# Altium integrated library Philips Discrete BJT - RF Transistor.IntLib: 91 symbols (part 1 of 2)
Pins are listed as number, name and electrical type; pins without a type are passive.

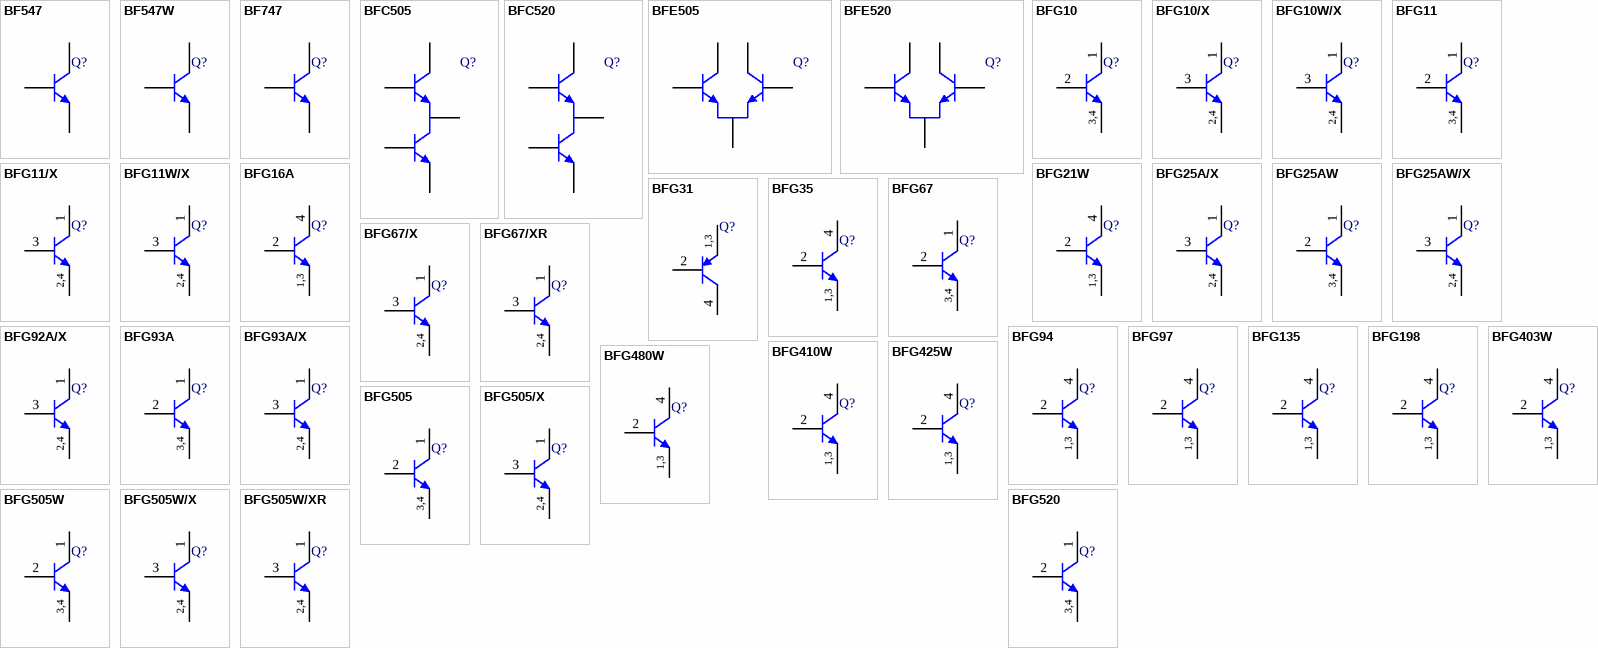
[diagram p0: symbols BF547 to BFG520]

## BF547
designator Q?
NPN 1 GHz Wideband Transistor; ComponentAvailability: Obsolete; Published: 17-Sep-2003; DatasheetVersion: Sep-1995; PackageVersion: May-1999; PackageReference: SOT23; Publisher: Altium Limited; PackageDescription: SOT-23; 3 Leads; Body 3.0 x 2.5 mm, inc. leads (LxW max); ComponentLink1Description: Manufacturer Link; ComponentLink1URL: http://www.semiconductors.philips.com/; ComponentLink2Description: Datasheet; ComponentLink2URL: http://www.semiconductors.philips.com/acrobat/datasheets/BF547_3.pdf; ComponentLink3Description: Discontinuation Notice; ComponentLink3URL: http://www.semiconductors.philips.com/pip/old/BF547.html
footprint SOT23 (SOT-23; 3 Leads; Body 3.0 x 2.5 mm, inc. leads (LxW max))
simulation model BF547 (SUBCKT)
signal-integrity model BF547
pins: 1 B, 2 E, 3 C

## BF547W
designator Q?
NPN 1 GHz Wideband Transistor; ComponentAvailability: Obsolete; Published: 17-Sep-2003; DatasheetVersion: Jun-1994; PackageVersion: Apr-1999; PackageReference: SOT323; Publisher: Altium Limited; PackageDescription: SOT-323/SC-70; 3 Leads; Body 2.2 x 2.2 mm, inc. leads (LxW max); ComponentLink1Description: Manufacturer Link; ComponentLink1URL: http://www.semiconductors.philips.com/; ComponentLink2Description: Datasheet; ComponentLink2URL: http://www.semiconductors.philips.com/acrobat/datasheets/BF547W_2.pdf; ComponentLink3Description: Discontinuation Notice; ComponentLink3URL: http://www.semiconductors.philips.com/pip/old/BF547W.html
footprint SOT323 (SOT-323/SC-70; 3 Leads; Body 2.2 x 2.2 mm, inc. leads (LxW max))
simulation model BF547W (SUBCKT)
signal-integrity model BF547W
pins: 1 B, 2 E, 3 C

## BF747
designator Q?
NPN 1 GHz Wideband Transistor; ComponentAvailability: Obsolete; Published: 17-Sep-2003; DatasheetVersion: Sep-1995; PackageVersion: May-1999; PackageReference: SOT23; Publisher: Altium Limited; PackageDescription: SOT-23; 3 Leads; Body 3.0 x 2.5 mm, inc. leads (LxW max); ComponentLink1Description: Manufacturer Link; ComponentLink1URL: http://www.semiconductors.philips.com/; ComponentLink2Description: Datasheet; ComponentLink2URL: http://www.semiconductors.philips.com/acrobat/datasheets/BF747_3.pdf; ComponentLink3Description: Discontinuation Notice; ComponentLink3URL: http://www.semiconductors.philips.com/pip/old/BF747_3.html
footprint SOT23 (SOT-23; 3 Leads; Body 3.0 x 2.5 mm, inc. leads (LxW max))
signal-integrity model BF747
pins: 1 B, 2 E, 3 C

## BFC505
designator Q?
NPN Wideband Cascode Transistor; ComponentAvailability: Not for New Design; Published: 17-Sep-2003; DatasheetVersion: 8-Oct-1996; PackageVersion: Feb-1997; PackageReference: SOT353; Publisher: Altium Limited; PackageDescription: SOT-353/SC-88A; 5 Leads; Body 2.2 x 2.2 mm, inc. leads (LxW max); Code_JEITA: SC-88A; ComponentLink1Description: Manufacturer Link; ComponentLink1URL: http://www.semiconductors.philips.com/; ComponentLink2Description: Datasheet; ComponentLink2URL: http://www.semiconductors.philips.com/acrobat/datasheets/BFC505_2.pdf; ComponentLink3Description: Discontinuation Notice; ComponentLink3URL: http://www.semiconductors.philips.com/pip/BFC505.html
footprint SOT353 (SOT-353/SC-88A; 5 Leads; Body 2.2 x 2.2 mm, inc. leads (LxW max))
simulation model BFC505 (SUBCKT)
signal-integrity model BFC505
pins: 1 B2, 2 E1, 3 B1, 4 C1, 5 C2

## BFC520
designator Q?
NPN Wideband Cascode Transistor; ComponentAvailability: Not for New Design; Published: 17-Sep-2003; DatasheetVersion: 10-Sep-1997; PackageVersion: Feb-1997; PackageReference: SOT353; Publisher: Altium Limited; PackageDescription: SOT-353/SC-88A; 5 Leads; Body 2.2 x 2.2 mm, inc. leads (LxW max); Code_JEITA: SC-88A; ComponentLink1Description: Manufacturer Link; ComponentLink1URL: http://www.semiconductors.philips.com/; ComponentLink2Description: Datasheet; ComponentLink2URL: http://www.semiconductors.philips.com/acrobat/datasheets/BFC520_3.pdf; ComponentLink3Description: Discontinuation Notice; ComponentLink3URL: http://www.semiconductors.philips.com/pip/BFC520.html
footprint SOT353 (SOT-353/SC-88A; 5 Leads; Body 2.2 x 2.2 mm, inc. leads (LxW max))
simulation model BFC520 (SUBCKT)
signal-integrity model BFC520
pins: 1 B2, 2 E1, 3 B1, 4 C1, 5 C2

## BFE505
designator Q?
NPN Wideband Differential Transistor; ComponentAvailability: Not for New Design; Published: 17-Sep-2003; DatasheetVersion: 8-Oct-1996; PackageVersion: Feb-1997; PackageReference: SOT353; Publisher: Altium Limited; PackageDescription: SOT-353/SC-88A; 5 Leads; Body 2.2 x 2.2 mm, inc. leads (LxW max); Code_JEITA: SC-88A; ComponentLink1Description: Manufacturer Link; ComponentLink1URL: http://www.semiconductors.philips.com/; ComponentLink2Description: Datasheet; ComponentLink2URL: http://www.semiconductors.philips.com/acrobat/datasheets/BFE505_2.pdf; ComponentLink3Description: Discontinuation Notice; ComponentLink3URL: http://www.semiconductors.philips.com/pip/BFE505_2.html
footprint SOT353 (SOT-353/SC-88A; 5 Leads; Body 2.2 x 2.2 mm, inc. leads (LxW max))
simulation model BFE505 (SUBCKT)
signal-integrity model BFE505
pins: 1 B1, 2 E, 3 B2, 4 C2, 5 C1

## BFE520
designator Q?
NPN Wideband Differential Transistor; ComponentAvailability: Not for New Design; Published: 17-Sep-2003; DatasheetVersion: 8-Oct-1996; PackageVersion: Feb-1997; PackageReference: SOT353; Publisher: Altium Limited; PackageDescription: SOT-353/SC-88A; 5 Leads; Body 2.2 x 2.2 mm, inc. leads (LxW max); Code_JEITA: SC-88A; ComponentLink1Description: Manufacturer Link; ComponentLink1URL: http://www.semiconductors.philips.com/; ComponentLink2Description: Datasheet; ComponentLink2URL: http://www.semiconductors.philips.com/acrobat/datasheets/BFE520_2.pdf; ComponentLink3Description: Discontinuation Notice; ComponentLink3URL: http://www.semiconductors.philips.com/pip/BFE520_2.html
footprint SOT353 (SOT-353/SC-88A; 5 Leads; Body 2.2 x 2.2 mm, inc. leads (LxW max))
simulation model BFE520 (SUBCKT)
signal-integrity model BFE520
pins: 1 B1, 2 E, 3 B2, 4 C2, 5 C1

## BFG10
designator Q?
NPN 2 GHz RF Power Transistor; Published: 17-Sep-2003; DatasheetVersion: 31-Aug-1995; PackageVersion: Sep-1996; PackageReference: SOT143; Publisher: Altium Limited; PackageDescription: SOT-143; 4 Leads; Body 3 x 2.5 mm, inc. leads (LxW max); ComponentLink1Description: Manufacturer Link; ComponentLink1URL: http://www.semiconductors.philips.com/; ComponentLink2Description: Datasheet; ComponentLink2URL: http://www.semiconductors.philips.com/acrobat/datasheets/BFG10X_4.pdf
footprint SOT143 (SOT-143; 4 Leads; Body 3 x 2.5 mm, inc. leads (LxW max))
simulation model BFG10 (SUBCKT)
signal-integrity model BFG10
pins: 1 C, 2 B, 3 E, 4 E
text: 3,4

## BFG10/X
designator Q?
NPN 2 GHz RF Power Transistor; Published: 17-Sep-2003; DatasheetVersion: 31-Aug-1995; PackageVersion: Sep-1996; PackageReference: SOT143; Publisher: Altium Limited; PackageDescription: SOT-143; 4 Leads; Body 3 x 2.5 mm, inc. leads (LxW max); ComponentLink1Description: Manufacturer Link; ComponentLink1URL: http://www.semiconductors.philips.com/; ComponentLink2Description: Datasheet; ComponentLink2URL: http://www.semiconductors.philips.com/acrobat/datasheets/BFG10X_4.pdf
footprint SOT143 (SOT-143; 4 Leads; Body 3 x 2.5 mm, inc. leads (LxW max))
simulation model BFG10_X (SUBCKT)
signal-integrity model BFG10/X
pins: 1 C, 2 E, 3 B, 4 E
text: 2,4

## BFG10W/X
designator Q?
UHF Power Transistor; Published: 17-Sep-2003; DatasheetVersion: 22-Sep-1995; PackageVersion: Sep-1995; PackageReference: SOT343; Publisher: Altium Limited; PackageDescription: SOT-343; 4 Leads; Body 2.2 x 2.2 mm, inc. leads (LxW max); ComponentLink1Description: Manufacturer Link; ComponentLink1URL: http://www.semiconductors.philips.com/; ComponentLink2Description: Datasheet; ComponentLink2URL: http://www.semiconductors.philips.com/acrobat/datasheets/BFG10WX_1.pdf
footprint SOT343 (SOT-343; 4 Leads; Body 2.2 x 2.2 mm, inc. leads (LxW max))
simulation model BFG10W_X (SUBCKT)
signal-integrity model BFG10W/X
pins: 1 C, 2 E, 3 B, 4 E
text: 2,4

## BFG11
designator Q?
NPN 2 GHz RF Power Transistor; ComponentAvailability: Obsolete; Published: 17-Sep-2003; DatasheetVersion: 7-Apr-1995; PackageVersion: Sep-1996; PackageReference: SOT143; Publisher: Altium Limited; PackageDescription: SOT-143; 4 Leads; Body 3 x 2.5 mm, inc. leads (LxW max); ComponentLink1Description: Manufacturer Link; ComponentLink1URL: http://www.semiconductors.philips.com/; ComponentLink2Description: Datasheet; ComponentLink2URL: http://www.semiconductors.philips.com/acrobat/datasheets/BFG11X_3.pdf; ComponentLink3Description: Discontinuation Notice; ComponentLink3URL: http://www.semiconductors.philips.com/pip/old/BFG11X_3.html
footprint SOT143 (SOT-143; 4 Leads; Body 3 x 2.5 mm, inc. leads (LxW max))
simulation model BFG11 (SUBCKT)
signal-integrity model BFG11
pins: 1 C, 2 B, 3 E, 4 E
text: 3,4

## BFG11/X
designator Q?
NPN 2 GHz RF Power Transistor; ComponentAvailability: Obsolete; Published: 17-Sep-2003; DatasheetVersion: 7-Apr-1995; PackageVersion: Sep-1996; PackageReference: SOT143; Publisher: Altium Limited; PackageDescription: SOT-143; 4 Leads; Body 3 x 2.5 mm, inc. leads (LxW max); ComponentLink1Description: Manufacturer Link; ComponentLink1URL: http://www.semiconductors.philips.com/; ComponentLink2Description: Datasheet; ComponentLink2URL: http://www.semiconductors.philips.com/acrobat/datasheets/BFG11X_3.pdf; ComponentLink3Description: Discontinuation Notice; ComponentLink3URL: http://www.semiconductors.philips.com/pip/old/BFG11X_3.html
footprint SOT143 (SOT-143; 4 Leads; Body 3 x 2.5 mm, inc. leads (LxW max))
simulation model BFG11_X (SUBCKT)
signal-integrity model BFG11/X
pins: 1 C, 2 E, 3 B, 4 E
text: 2,4

## BFG11W/X
designator Q?
NPN 2 GHz Power Transistor; ComponentAvailability: Obsolete; Published: 17-Sep-2003; DatasheetVersion: 4-Jun-1996; PackageVersion: Sep-1995; PackageReference: SOT343; Publisher: Altium Limited; PackageDescription: SOT-343; 4 Leads; Body 2.2 x 2.2 mm, inc. leads (LxW max); ComponentLink1Description: Manufacturer Link; ComponentLink1URL: http://www.semiconductors.philips.com/; ComponentLink2Description: Datasheet; ComponentLink2URL: http://www.semiconductors.philips.com/acrobat/datasheets/BFG11WX_2.pdf; ComponentLink3Description: Discontinuation Notice; ComponentLink3URL: http://www.semiconductors.philips.com/pip/old/BFG11WX_2.html
footprint SOT343 (SOT-343; 4 Leads; Body 2.2 x 2.2 mm, inc. leads (LxW max))
simulation model BFG11W_X (SUBCKT)
signal-integrity model BFG11W/X
pins: 1 C, 2 E, 3 B, 4 E
text: 2,4

## BFG16A
designator Q?
NPN 2 GHz Wideband Transistor; ComponentAvailability: Obsolete; Published: 17-Sep-2003; DatasheetVersion: 12-Sep-1995; PackageVersion: Aug-2001; PackageReference: SOT223; Publisher: Altium Limited; PackageDescription: SOT-223/SC-73; 4 Leads; Body 6.7 x 7.3 mm, inc. leads (LxW max); ComponentLink1Description: Manufacturer Link; ComponentLink1URL: http://www.semiconductors.philips.com/; ComponentLink2Description: Datasheet; ComponentLink2URL: http://www.semiconductors.philips.com/acrobat/datasheets/BFG16A_2.pdf; ComponentLink3Description: Discontinuation Notice; ComponentLink3URL: http://www.semiconductors.philips.com/pip/old/BFG16A_2.html
footprint SOT223 (SOT-223/SC-73; 4 Leads; Body 6.7 x 7.3 mm, inc. leads (LxW max))
simulation model BFG16A (SUBCKT)
signal-integrity model BFG16A
pins: 1 E, 2 B, 3 E, 4 C
text: 1,3

## BFG21W
designator Q?
UHF Power Transistor; Published: 17-Sep-2003; DatasheetVersion: 6-Jul-1998; PackageVersion: Jul-1998; PackageReference: SOT343R; Publisher: Altium Limited; PackageDescription: SOT-343; 4 Leads; Body 2.2 x 2.2 mm, inc. leads (LxW max); Reverse Pinning; ComponentLink1Description: Manufacturer Link; ComponentLink1URL: http://www.semiconductors.philips.com/; ComponentLink2Description: Datasheet; ComponentLink2URL: http://www.semiconductors.philips.com/acrobat/datasheets/BFG21W_3.pdf
footprint SOT343R (SOT-343; 4 Leads; Body 2.2 x 2.2 mm, inc. leads (LxW max); Reverse Pinning)
simulation model BFG21W (SUBCKT)
signal-integrity model BFG21W
pins: 1 E, 2 B, 3 E, 4 C
text: 1,3

## BFG25A/X
designator Q?
NPN 5 GHz Wideband Transistor; Published: 17-Sep-2003; DatasheetVersion: 29-Oct-1997; PackageVersion: Oct-2001; PackageReference: SOT143B; Publisher: Altium Limited; PackageDescription: SOT-143; 4 Leads; Body 3 x 2.5 mm, inc. leads (LxW max); ComponentLink1Description: Manufacturer Link; ComponentLink1URL: http://www.semiconductors.philips.com/; ComponentLink2Description: Datasheet; ComponentLink2URL: http://www.semiconductors.philips.com/acrobat/datasheets/BFG25AX_3.pdf
footprint SOT143B (SOT-143; 4 Leads; Body 3 x 2.5 mm, inc. leads (LxW max))
simulation model BFG25A_X (SUBCKT)
signal-integrity model BFG25A/X
pins: 1 C, 2 E, 3 B, 4 E
text: 2,4

## BFG25AW
designator Q?
NPN 5 GHz Wideband Transistor; Published: 17-Sep-2003; DatasheetVersion: 23-Sep-1998; PackageVersion: Sep-1998; PackageReference: SOT343N; Publisher: Altium Limited; PackageDescription: SOT-343; 4 Leads; Body 2.2 x 2.2 mm, inc. leads (LxW max); ComponentLink1Description: Manufacturer Link; ComponentLink1URL: http://www.semiconductors.philips.com/; ComponentLink2Description: Datasheet; ComponentLink2URL: http://www.semiconductors.philips.com/acrobat/datasheets/BFG25AW_X_3.pdf
footprint SOT343N (SOT-343; 4 Leads; Body 2.2 x 2.2 mm, inc. leads (LxW max))
simulation model BFG25AW (SUBCKT)
signal-integrity model BFG25AW
pins: 1 C, 2 B, 3 E, 4 E
text: 3,4

## BFG25AW/X
designator Q?
NPN 5 GHz Wideband Transistor; Published: 17-Sep-2003; DatasheetVersion: 23-Sep-1998; PackageVersion: Sep-1998; PackageReference: SOT343N; Publisher: Altium Limited; PackageDescription: SOT-343; 4 Leads; Body 2.2 x 2.2 mm, inc. leads (LxW max); ComponentLink1Description: Manufacturer Link; ComponentLink1URL: http://www.semiconductors.philips.com/; ComponentLink2Description: Datasheet; ComponentLink2URL: http://www.semiconductors.philips.com/acrobat/datasheets/BFG25AW_X_3.pdf
footprint SOT343N (SOT-343; 4 Leads; Body 2.2 x 2.2 mm, inc. leads (LxW max))
simulation model BFG25AW_X (SUBCKT)
signal-integrity model BFG25AW/X
pins: 1 C, 2 E, 3 B, 4 E
text: 2,4

## BFG31
designator Q?
PNP 5 GHz Wideband Transistor; Published: 17-Sep-2003; DatasheetVersion: 12-Sep-1995; PackageVersion: Aug-2001; PackageReference: SOT223; Publisher: Altium Limited; PackageDescription: SOT-223/SC-73; 4 Leads; Body 6.7 x 7.3 mm, inc. leads (LxW max); ComponentLink1Description: Manufacturer Link; ComponentLink1URL: http://www.semiconductors.philips.com/; ComponentLink2Description: Datasheet; ComponentLink2URL: http://www.semiconductors.philips.com/acrobat/datasheets/BFG31_2.pdf
footprint SOT223 (SOT-223/SC-73; 4 Leads; Body 6.7 x 7.3 mm, inc. leads (LxW max))
simulation model BFG31 (SUBCKT)
signal-integrity model BFG31
pins: 1 E, 2 B, 3 E, 4 C
text: 1,3

## BFG35
designator Q?
NPN 4 GHz Wideband Transistor; Published: 17-Sep-2003; DatasheetVersion: 24-Aug-1999; PackageVersion: Aug-2001; PackageReference: SOT223; Publisher: Altium Limited; PackageDescription: SOT-223/SC-73; 4 Leads; Body 6.7 x 7.3 mm, inc. leads (LxW max); ComponentLink1Description: Manufacturer Link; ComponentLink1URL: http://www.semiconductors.philips.com/; ComponentLink2Description: Datasheet; ComponentLink2URL: http://www.semiconductors.philips.com/acrobat/datasheets/BFG35_3.pdf
footprint SOT223 (SOT-223/SC-73; 4 Leads; Body 6.7 x 7.3 mm, inc. leads (LxW max))
simulation model BFG35 (SUBCKT)
signal-integrity model BFG35
pins: 1 E, 2 B, 3 E, 4 C
text: 1,3

## BFG67
designator Q?
NPN 8 GHz Wideband Transistor; Published: 17-Sep-2003; DatasheetVersion: 2-Oct-1998; PackageVersion: Oct-2001; PackageReference: SOT143B; Publisher: Altium Limited; PackageDescription: SOT-143; 4 Leads; Body 3 x 2.5 mm, inc. leads (LxW max); ComponentLink1Description: Manufacturer Link; ComponentLink1URL: http://www.semiconductors.philips.com/; ComponentLink2Description: Datasheet; ComponentLink2URL: http://www.semiconductors.philips.com/acrobat/datasheets/BFG67_X_XR_4.pdf
footprint SOT143B (SOT-143; 4 Leads; Body 3 x 2.5 mm, inc. leads (LxW max))
simulation model BFG67 (SUBCKT)
signal-integrity model BFG67
pins: 1 C, 2 B, 3 E, 4 E
text: 3,4

## BFG67/X
designator Q?
NPN 8 GHz Wideband Transistor; Published: 17-Sep-2003; DatasheetVersion: 2-Oct-1998; PackageVersion: Oct-2001; PackageReference: SOT143B; Publisher: Altium Limited; PackageDescription: SOT-143; 4 Leads; Body 3 x 2.5 mm, inc. leads (LxW max); ComponentLink1Description: Manufacturer Link; ComponentLink1URL: http://www.semiconductors.philips.com/; ComponentLink2Description: Datasheet; ComponentLink2URL: http://www.semiconductors.philips.com/acrobat/datasheets/BFG67_X_XR_4.pdf
footprint SOT143B (SOT-143; 4 Leads; Body 3 x 2.5 mm, inc. leads (LxW max))
simulation model BFG67_X (SUBCKT)
signal-integrity model BFG67/X
pins: 1 C, 2 E, 3 B, 4 E
text: 2,4

## BFG67/XR
designator Q?
NPN 8 GHz Wideband Transistor; Published: 17-Sep-2003; DatasheetVersion: 2-Oct-1998; PackageVersion: May-1999; PackageReference: SOT143R; Publisher: Altium Limited; PackageDescription: SOT-143; 4 Leads; Body 3 x 2.5 mm, inc. leads (LxW max); Reverse Pinning; ComponentLink1Description: Manufacturer Link; ComponentLink1URL: http://www.semiconductors.philips.com/; ComponentLink2Description: Datasheet; ComponentLink2URL: http://www.semiconductors.philips.com/acrobat/datasheets/BFG67_X_XR_4.pdf
footprint SOT143R (SOT-143; 4 Leads; Body 3 x 2.5 mm, inc. leads (LxW max); Reverse Pinning)
simulation model BFG67_XR (SUBCKT)
signal-integrity model BFG67/XR
pins: 1 C, 2 E, 3 B, 4 E
text: 2,4

## BFG92A/X
designator Q?
NPN 5 GHz Wideband Transistor; Published: 17-Sep-2003; DatasheetVersion: 23-Sep-1998; PackageVersion: Oct-2001; PackageReference: SOT143B; Publisher: Altium Limited; PackageDescription: SOT-143; 4 Leads; Body 3 x 2.5 mm, inc. leads (LxW max); ComponentLink1Description: Manufacturer Link; ComponentLink1URL: http://www.semiconductors.philips.com/; ComponentLink2Description: Datasheet; ComponentLink2URL: http://www.semiconductors.philips.com/acrobat/datasheets/BFG92AX_4.pdf
footprint SOT143B (SOT-143; 4 Leads; Body 3 x 2.5 mm, inc. leads (LxW max))
simulation model BFG92A_X (SUBCKT)
signal-integrity model BFG92A/X
pins: 1 C, 2 E, 3 B, 4 E
text: 2,4

## BFG93A
designator Q?
NPN 6 GHz Wideband Transistor; Published: 17-Sep-2003; DatasheetVersion: 23-Sep-1998; PackageVersion: Oct-2001; PackageReference: SOT143B; Publisher: Altium Limited; PackageDescription: SOT-143; 4 Leads; Body 3 x 2.5 mm, inc. leads (LxW max); ComponentLink1Description: Manufacturer Link; ComponentLink1URL: http://www.semiconductors.philips.com/; ComponentLink2Description: Datasheet; ComponentLink2URL: http://www.semiconductors.philips.com/acrobat/datasheets/BFG93A_X_4.pdf
footprint SOT143B (SOT-143; 4 Leads; Body 3 x 2.5 mm, inc. leads (LxW max))
simulation model BFG93A (SUBCKT)
signal-integrity model BFG93A
pins: 1 C, 2 B, 3 E, 4 E
text: 3,4

## BFG93A/X
designator Q?
NPN 6 GHz Wideband Transistor; Published: 17-Sep-2003; DatasheetVersion: 23-Sep-1998; PackageVersion: Oct-2001; PackageReference: SOT143B; Publisher: Altium Limited; PackageDescription: SOT-143; 4 Leads; Body 3 x 2.5 mm, inc. leads (LxW max); ComponentLink1Description: Manufacturer Link; ComponentLink1URL: http://www.semiconductors.philips.com/; ComponentLink2Description: Datasheet; ComponentLink2URL: http://www.semiconductors.philips.com/acrobat/datasheets/BFG93A_X_4.pdf
footprint SOT143B (SOT-143; 4 Leads; Body 3 x 2.5 mm, inc. leads (LxW max))
simulation model BFG93A_X (SUBCKT)
signal-integrity model BFG93A/X
pins: 1 C, 2 E, 3 B, 4 E
text: 2,4

## BFG94
designator Q?
NPN 6 GHz Wideband Transistor; Published: 17-Sep-2003; DatasheetVersion: Sep-1995; PackageVersion: Aug-2001; PackageReference: SOT223; Publisher: Altium Limited; PackageDescription: SOT-223/SC-73; 4 Leads; Body 6.7 x 7.3 mm, inc. leads (LxW max); ComponentLink1Description: Manufacturer Link; ComponentLink1URL: http://www.semiconductors.philips.com/; ComponentLink2Description: Datasheet; ComponentLink2URL: http://www.semiconductors.philips.com/acrobat/datasheets/BFG94_CNV_2.pdf
footprint SOT223 (SOT-223/SC-73; 4 Leads; Body 6.7 x 7.3 mm, inc. leads (LxW max))
simulation model BFG94 (SUBCKT)
signal-integrity model BFG94
pins: 1 E, 2 B, 3 E, 4 C
text: 1,3

## BFG97
designator Q?
NPN 5 GHz Wideband Transistor; Published: 17-Sep-2003; DatasheetVersion: Sep-1995; PackageVersion: Aug-2001; PackageReference: SOT223; Publisher: Altium Limited; PackageDescription: SOT-223/SC-73; 4 Leads; Body 6.7 x 7.3 mm, inc. leads (LxW max); ComponentLink1Description: Manufacturer Link; ComponentLink1URL: http://www.semiconductors.philips.com/; ComponentLink2Description: Datasheet; ComponentLink2URL: http://www.semiconductors.philips.com/acrobat/datasheets/BFG97_CNV_2.pdf
footprint SOT223 (SOT-223/SC-73; 4 Leads; Body 6.7 x 7.3 mm, inc. leads (LxW max))
simulation model BFG97 (SUBCKT)
signal-integrity model BFG97
pins: 1 E, 2 B, 3 E, 4 C
text: 1,3

## BFG135
designator Q?
NPN 7 GHz Wideband Transistor; Published: 17-Sep-2003; DatasheetVersion: 13-Sep-1995; PackageVersion: Aug-2001; PackageReference: SOT223; Publisher: Altium Limited; PackageDescription: SOT-223/SC-73; 4 Leads; Body 6.7 x 7.3 mm, inc. leads (LxW max); ComponentLink1Description: Manufacturer Link; ComponentLink1URL: http://www.semiconductors.philips.com/; ComponentLink2Description: Datasheet; ComponentLink2URL: http://www.semiconductors.philips.com/acrobat/datasheets/BFG135_3.pdf
footprint SOT223 (SOT-223/SC-73; 4 Leads; Body 6.7 x 7.3 mm, inc. leads (LxW max))
simulation model BFG135 (SUBCKT)
signal-integrity model BFG135
pins: 1 E, 2 B, 3 E, 4 C
text: 1,3

## BFG198
designator Q?
NPN 8 GHz Wideband Transistor; Published: 17-Sep-2003; DatasheetVersion: 12-Sep-1995; PackageVersion: Aug-2001; PackageReference: SOT223; Publisher: Altium Limited; PackageDescription: SOT-223/SC-73; 4 Leads; Body 6.7 x 7.3 mm, inc. leads (LxW max); ComponentLink1Description: Manufacturer Link; ComponentLink1URL: http://www.semiconductors.philips.com/; ComponentLink2Description: Datasheet; ComponentLink2URL: http://www.semiconductors.philips.com/acrobat/datasheets/BFG198_3.pdf
footprint SOT223 (SOT-223/SC-73; 4 Leads; Body 6.7 x 7.3 mm, inc. leads (LxW max))
simulation model BFG198 (SUBCKT)
signal-integrity model BFG198
pins: 1 E, 2 B, 3 E, 4 C
text: 1,3

## BFG403W
designator Q?
NPN 17 GHz Wideband Transistor; Published: 17-Sep-2003; DatasheetVersion: 11-Mar-1998; PackageVersion: Jul-1998; PackageReference: SOT343R; Publisher: Altium Limited; PackageDescription: SOT-343; 4 Leads; Body 2.2 x 2.2 mm, inc. leads (LxW max); Reverse Pinning; ComponentLink1Description: Manufacturer Link; ComponentLink1URL: http://www.semiconductors.philips.com/; ComponentLink2Description: Datasheet; ComponentLink2URL: http://www.semiconductors.philips.com/acrobat/datasheets/BFG403W_4.pdf
footprint SOT343R (SOT-343; 4 Leads; Body 2.2 x 2.2 mm, inc. leads (LxW max); Reverse Pinning)
simulation model BFG403W (SUBCKT)
signal-integrity model BFG403W
pins: 1 E, 2 B, 3 E, 4 C
text: 1,3

## BFG410W
designator Q?
NPN 22 GHz Wideband Transistor; Published: 17-Sep-2003; DatasheetVersion: 11-Mar-1998; PackageVersion: Jul-1998; PackageReference: SOT343R; Publisher: Altium Limited; PackageDescription: SOT-343; 4 Leads; Body 2.2 x 2.2 mm, inc. leads (LxW max); Reverse Pinning; ComponentLink1Description: Manufacturer Link; ComponentLink1URL: http://www.semiconductors.philips.com/; ComponentLink2Description: Datasheet; ComponentLink2URL: http://www.semiconductors.philips.com/acrobat/datasheets/BFG410W_4.pdf
footprint SOT343R (SOT-343; 4 Leads; Body 2.2 x 2.2 mm, inc. leads (LxW max); Reverse Pinning)
simulation model BFG410W (SUBCKT)
signal-integrity model BFG410W
pins: 1 E, 2 B, 3 E, 4 C
text: 1,3

## BFG425W
designator Q?
NPN 25 GHz Wideband Transistor; Published: 17-Sep-2003; DatasheetVersion: 11-Mar-1998; PackageVersion: Jul-1998; PackageReference: SOT343R; Publisher: Altium Limited; PackageDescription: SOT-343; 4 Leads; Body 2.2 x 2.2 mm, inc. leads (LxW max); Reverse Pinning; ComponentLink1Description: Manufacturer Link; ComponentLink1URL: http://www.semiconductors.philips.com/; ComponentLink2Description: Datasheet; ComponentLink2URL: http://www.semiconductors.philips.com/acrobat/datasheets/BFG425W_4.pdf
footprint SOT343R (SOT-343; 4 Leads; Body 2.2 x 2.2 mm, inc. leads (LxW max); Reverse Pinning)
simulation model BFG425W (SUBCKT)
signal-integrity model BFG425W
pins: 1 E, 2 B, 3 E, 4 C
text: 1,3

## BFG480W
designator Q?
NPN 21 GHz Wideband Transistor; Published: 17-Sep-2003; DatasheetVersion: 21-Oct-1998; PackageVersion: Jul-1998; PackageReference: SOT343R; Publisher: Altium Limited; PackageDescription: SOT-343; 4 Leads; Body 2.2 x 2.2 mm, inc. leads (LxW max); Reverse Pinning; ComponentLink1Description: Manufacturer Link; ComponentLink1URL: http://www.semiconductors.philips.com/; ComponentLink2Description: Datasheet; ComponentLink2URL: http://www.semiconductors.philips.com/acrobat/datasheets/BFG480W_3.pdf
footprint SOT343R (SOT-343; 4 Leads; Body 2.2 x 2.2 mm, inc. leads (LxW max); Reverse Pinning)
simulation model BFG480W (SUBCKT)
signal-integrity model BFG480W
pins: 1 E, 2 B, 3 E, 4 C
text: 1,3

## BFG505
designator Q?
NPN 9 GHz Wideband Transistor; Published: 17-Sep-2003; DatasheetVersion: 2-Oct-1998; PackageVersion: Oct-2001; PackageReference: SOT143B; Publisher: Altium Limited; PackageDescription: SOT-143; 4 Leads; Body 3 x 2.5 mm, inc. leads (LxW max); ComponentLink1Description: Manufacturer Link; ComponentLink1URL: http://www.semiconductors.philips.com/; ComponentLink2Description: Datasheet; ComponentLink2URL: http://www.semiconductors.philips.com/acrobat/datasheets/BFG505_X_3.pdf
footprint SOT143B (SOT-143; 4 Leads; Body 3 x 2.5 mm, inc. leads (LxW max))
simulation model BFG505 (SUBCKT)
signal-integrity model BFG505
pins: 1 C, 2 B, 3 E, 4 E
text: 3,4

## BFG505/X
designator Q?
NPN 9 GHz Wideband Transistor; Published: 17-Sep-2003; DatasheetVersion: 2-Oct-1998; PackageVersion: Oct-2001; PackageReference: SOT143B; Publisher: Altium Limited; PackageDescription: SOT-143; 4 Leads; Body 3 x 2.5 mm, inc. leads (LxW max); ComponentLink1Description: Manufacturer Link; ComponentLink1URL: http://www.semiconductors.philips.com/; ComponentLink2Description: Datasheet; ComponentLink2URL: http://www.semiconductors.philips.com/acrobat/datasheets/BFG505_X_3.pdf
footprint SOT143B (SOT-143; 4 Leads; Body 3 x 2.5 mm, inc. leads (LxW max))
simulation model BFG505_X (SUBCKT)
signal-integrity model BFG505/X
pins: 1 C, 2 E, 3 B, 4 E
text: 2,4

## BFG505W
designator Q?
NPN 9 GHz Wideband Transistor; Published: 17-Sep-2003; DatasheetVersion: 30-Oct-2000; PackageVersion: Sep-1998; PackageReference: SOT343N; Publisher: Altium Limited; PackageDescription: SOT-343; 4 Leads; Body 2.2 x 2.2 mm, inc. leads (LxW max); ComponentLink1Description: Manufacturer Link; ComponentLink1URL: http://www.semiconductors.philips.com/; ComponentLink2Description: Datasheet; ComponentLink2URL: http://www.semiconductors.philips.com/acrobat/datasheets/BFG505W_WX_WXR_4.pdf
footprint SOT343N (SOT-343; 4 Leads; Body 2.2 x 2.2 mm, inc. leads (LxW max))
simulation model BFG505W (SUBCKT)
signal-integrity model BFG505W
pins: 1 C, 2 B, 3 E, 4 E
text: 3,4

## BFG505W/X
designator Q?
NPN 9 GHz Wideband Transistor; Published: 17-Sep-2003; DatasheetVersion: 30-Oct-2000; PackageVersion: Sep-1998; PackageReference: SOT343N; Publisher: Altium Limited; PackageDescription: SOT-343; 4 Leads; Body 2.2 x 2.2 mm, inc. leads (LxW max); ComponentLink1Description: Manufacturer Link; ComponentLink1URL: http://www.semiconductors.philips.com/; ComponentLink2Description: Datasheet; ComponentLink2URL: http://www.semiconductors.philips.com/acrobat/datasheets/BFG505W_WX_WXR_4.pdf
footprint SOT343N (SOT-343; 4 Leads; Body 2.2 x 2.2 mm, inc. leads (LxW max))
simulation model BFG505W_X (SUBCKT)
signal-integrity model BFG505W/X
pins: 1 C, 2 E, 3 B, 4 E
text: 2,4

## BFG505W/XR
designator Q?
NPN 9 GHz Wideband Transistor; Published: 17-Sep-2003; DatasheetVersion: 30-Oct-2000; PackageVersion: Jul-1998; PackageReference: SOT343R; Publisher: Altium Limited; PackageDescription: SOT-343; 4 Leads; Body 2.2 x 2.2 mm, inc. leads (LxW max); Reverse Pinning; ComponentLink1Description: Manufacturer Link; ComponentLink1URL: http://www.semiconductors.philips.com/; ComponentLink2Description: Datasheet; ComponentLink2URL: http://www.semiconductors.philips.com/acrobat/datasheets/BFG505W_WX_WXR_4.pdf
footprint SOT343R (SOT-343; 4 Leads; Body 2.2 x 2.2 mm, inc. leads (LxW max); Reverse Pinning)
simulation model BFG505W_XR (SUBCKT)
signal-integrity model BFG505W/XR
pins: 1 C, 2 E, 3 B, 4 E
text: 2,4

## BFG520
designator Q?
NPN 9 GHz Wideband Transistor; Published: 17-Sep-2003; DatasheetVersion: Sep-1995; PackageVersion: Oct-2001; PackageReference: SOT143B; Publisher: Altium Limited; PackageDescription: SOT-143; 4 Leads; Body 3 x 2.5 mm, inc. leads (LxW max); ComponentLink1Description: Manufacturer Link; ComponentLink1URL: http://www.semiconductors.philips.com/; ComponentLink2Description: Datasheet; ComponentLink2URL: http://www.semiconductors.philips.com/acrobat/datasheets/BFG520XR_CNV_3.pdf
footprint SOT143B (SOT-143; 4 Leads; Body 3 x 2.5 mm, inc. leads (LxW max))
simulation model BFG520 (SUBCKT)
signal-integrity model BFG520
pins: 1 C, 2 B, 3 E, 4 E
text: 3,4

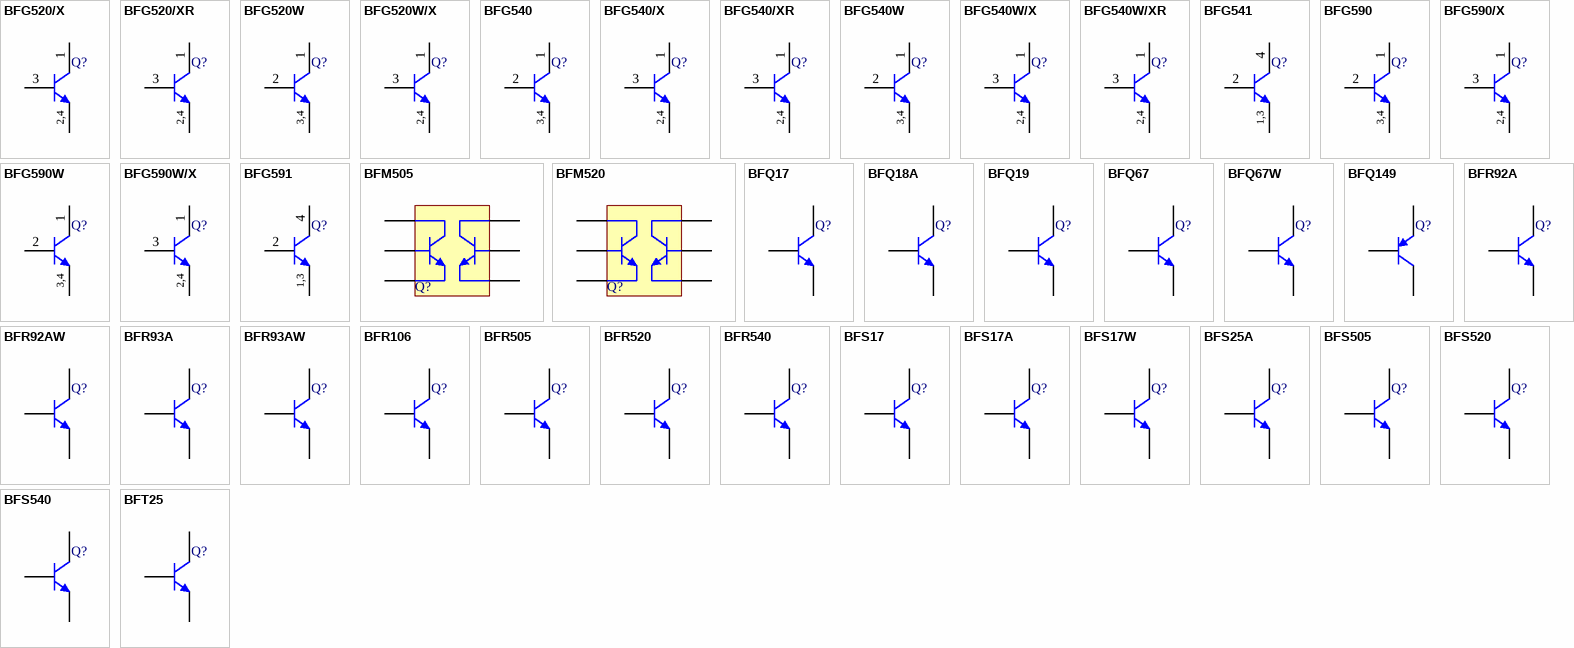
[diagram p1: symbols BFG520/X to BFT25]

## BFG520/X
designator Q?
NPN 9 GHz Wideband Transistor; Published: 17-Sep-2003; DatasheetVersion: Sep-1995; PackageVersion: Oct-2001; PackageReference: SOT143B; Publisher: Altium Limited; PackageDescription: SOT-143; 4 Leads; Body 3 x 2.5 mm, inc. leads (LxW max); ComponentLink1Description: Manufacturer Link; ComponentLink1URL: http://www.semiconductors.philips.com/; ComponentLink2Description: Datasheet; ComponentLink2URL: http://www.semiconductors.philips.com/acrobat/datasheets/BFG520XR_CNV_3.pdf
footprint SOT143B (SOT-143; 4 Leads; Body 3 x 2.5 mm, inc. leads (LxW max))
simulation model BFG520_X (SUBCKT)
signal-integrity model BFG520/X
pins: 1 C, 2 E, 3 B, 4 E
text: 2,4

## BFG520/XR
designator Q?
NPN 9 GHz Wideband Transistor; Published: 17-Sep-2003; DatasheetVersion: Sep-1995; PackageVersion: May-1999; PackageReference: SOT143R; Publisher: Altium Limited; PackageDescription: SOT-143; 4 Leads; Body 3 x 2.5 mm, inc. leads (LxW max); Reverse Pinning; ComponentLink1Description: Manufacturer Link; ComponentLink1URL: http://www.semiconductors.philips.com/; ComponentLink2Description: Datasheet; ComponentLink2URL: http://www.semiconductors.philips.com/acrobat/datasheets/BFG520XR_CNV_3.pdf
footprint SOT143R (SOT-143; 4 Leads; Body 3 x 2.5 mm, inc. leads (LxW max); Reverse Pinning)
simulation model BFG520_XR (SUBCKT)
signal-integrity model BFG520/XR
pins: 1 C, 2 E, 3 B, 4 E
text: 2,4

## BFG520W
designator Q?
NPN 9 GHz Wideband Transistor; Published: 17-Sep-2003; DatasheetVersion: 2-Oct-1998; PackageVersion: Sep-1998; PackageReference: SOT343N; Publisher: Altium Limited; PackageDescription: SOT-343; 4 Leads; Body 2.2 x 2.2 mm, inc. leads (LxW max); ComponentLink1Description: Manufacturer Link; ComponentLink1URL: http://www.semiconductors.philips.com/; ComponentLink2Description: Datasheet; ComponentLink2URL: http://www.semiconductors.philips.com/acrobat/datasheets/BFG520W_X_3.pdf
footprint SOT343N (SOT-343; 4 Leads; Body 2.2 x 2.2 mm, inc. leads (LxW max))
simulation model BFG520W (SUBCKT)
signal-integrity model BFG520W
pins: 1 C, 2 B, 3 E, 4 E
text: 3,4

## BFG520W/X
designator Q?
NPN 9 GHz Wideband Transistor; Published: 17-Sep-2003; DatasheetVersion: 2-Oct-1998; PackageVersion: Sep-1998; PackageReference: SOT343N; Publisher: Altium Limited; PackageDescription: SOT-343; 4 Leads; Body 2.2 x 2.2 mm, inc. leads (LxW max); ComponentLink1Description: Manufacturer Link; ComponentLink1URL: http://www.semiconductors.philips.com/; ComponentLink2Description: Datasheet; ComponentLink2URL: http://www.semiconductors.philips.com/acrobat/datasheets/BFG520W_X_3.pdf
footprint SOT343N (SOT-343; 4 Leads; Body 2.2 x 2.2 mm, inc. leads (LxW max))
simulation model BFG520W_X (SUBCKT)
signal-integrity model BFG520W/X
pins: 1 C, 2 E, 3 B, 4 E
text: 2,4

## BFG540
designator Q?
NPN 9 GHz Wideband Transistor; Published: 17-Sep-2003; DatasheetVersion: 23-May-2000; PackageVersion: Oct-2001; PackageReference: SOT143B; Publisher: Altium Limited; PackageDescription: SOT-143; 4 Leads; Body 3 x 2.5 mm, inc. leads (LxW max); ComponentLink1Description: Manufacturer Link; ComponentLink1URL: http://www.semiconductors.philips.com/; ComponentLink2Description: Datasheet; ComponentLink2URL: http://www.semiconductors.philips.com/acrobat/datasheets/BFG540_X_XR_4.pdf
footprint SOT143B (SOT-143; 4 Leads; Body 3 x 2.5 mm, inc. leads (LxW max))
simulation model BFG540 (SUBCKT)
signal-integrity model BFG540
pins: 1 C, 2 B, 3 E, 4 E
text: 3,4

## BFG540/X
designator Q?
NPN 9 GHz Wideband Transistor; Published: 17-Sep-2003; DatasheetVersion: 23-May-2000; PackageVersion: Oct-2001; PackageReference: SOT143B; Publisher: Altium Limited; PackageDescription: SOT-143; 4 Leads; Body 3 x 2.5 mm, inc. leads (LxW max); ComponentLink1Description: Manufacturer Link; ComponentLink1URL: http://www.semiconductors.philips.com/; ComponentLink2Description: Datasheet; ComponentLink2URL: http://www.semiconductors.philips.com/acrobat/datasheets/BFG540_X_XR_4.pdf
footprint SOT143B (SOT-143; 4 Leads; Body 3 x 2.5 mm, inc. leads (LxW max))
simulation model BFG540_X (SUBCKT)
signal-integrity model BFG540/X
pins: 1 C, 2 E, 3 B, 4 E
text: 2,4

## BFG540/XR
designator Q?
NPN 9 GHz Wideband Transistor; Published: 17-Sep-2003; DatasheetVersion: 23-May-2000; PackageVersion: May-1999; PackageReference: SOT143R; Publisher: Altium Limited; PackageDescription: SOT-143; 4 Leads; Body 3 x 2.5 mm, inc. leads (LxW max); Reverse Pinning; ComponentLink1Description: Manufacturer Link; ComponentLink1URL: http://www.semiconductors.philips.com/; ComponentLink2Description: Datasheet; ComponentLink2URL: http://www.semiconductors.philips.com/acrobat/datasheets/BFG540_X_XR_4.pdf
footprint SOT143R (SOT-143; 4 Leads; Body 3 x 2.5 mm, inc. leads (LxW max); Reverse Pinning)
simulation model BFG540_XR (SUBCKT)
signal-integrity model BFG540/XR
pins: 1 C, 2 E, 3 B, 4 E
text: 2,4

## BFG540W
designator Q?
NPN 9 GHz Wideband Transistor; Published: 17-Sep-2003; DatasheetVersion: 23-May-2000; PackageVersion: Sep-1998; PackageReference: SOT343N; Publisher: Altium Limited; PackageDescription: SOT-343; 4 Leads; Body 2.2 x 2.2 mm, inc. leads (LxW max); ComponentLink1Description: Manufacturer Link; ComponentLink1URL: http://www.semiconductors.philips.com/; ComponentLink2Description: Datasheet; ComponentLink2URL: http://www.semiconductors.philips.com/acrobat/datasheets/BFG540W_WX_WXR_4.pdf
footprint SOT343N (SOT-343; 4 Leads; Body 2.2 x 2.2 mm, inc. leads (LxW max))
simulation model BFG540W (SUBCKT)
signal-integrity model BFG540W
pins: 1 C, 2 B, 3 E, 4 E
text: 3,4

## BFG540W/X
designator Q?
NPN 9 GHz Wideband Transistor; Published: 17-Sep-2003; DatasheetVersion: 23-May-2000; PackageVersion: Sep-1998; PackageReference: SOT343N; Publisher: Altium Limited; PackageDescription: SOT-343; 4 Leads; Body 2.2 x 2.2 mm, inc. leads (LxW max); ComponentLink1Description: Manufacturer Link; ComponentLink1URL: http://www.semiconductors.philips.com/; ComponentLink2Description: Datasheet; ComponentLink2URL: http://www.semiconductors.philips.com/acrobat/datasheets/BFG540W_WX_WXR_4.pdf
footprint SOT343N (SOT-343; 4 Leads; Body 2.2 x 2.2 mm, inc. leads (LxW max))
simulation model BFG540W_X (SUBCKT)
signal-integrity model BFG540W/X
pins: 1 C, 2 E, 3 B, 4 E
text: 2,4

## BFG540W/XR
designator Q?
NPN 9 GHz Wideband Transistor; Published: 17-Sep-2003; DatasheetVersion: 23-May-2000; PackageVersion: Jul-1998; PackageReference: SOT343R; Publisher: Altium Limited; PackageDescription: SOT-343; 4 Leads; Body 2.2 x 2.2 mm, inc. leads (LxW max); Reverse Pinning; ComponentLink1Description: Manufacturer Link; ComponentLink1URL: http://www.semiconductors.philips.com/; ComponentLink2Description: Datasheet; ComponentLink2URL: http://www.semiconductors.philips.com/acrobat/datasheets/BFG540W_WX_WXR_4.pdf
footprint SOT343R (SOT-343; 4 Leads; Body 2.2 x 2.2 mm, inc. leads (LxW max); Reverse Pinning)
simulation model BFG540W_XR (SUBCKT)
signal-integrity model BFG540W/XR
pins: 1 C, 2 E, 3 B, 4 E
text: 2,4

## BFG541
designator Q?
NPN 9 GHz Wideband Transistor; Published: 17-Sep-2003; DatasheetVersion: Sep-1995; PackageVersion: Aug-2001; PackageReference: SOT223; Publisher: Altium Limited; PackageDescription: SOT-223/SC-73; 4 Leads; Body 6.7 x 7.3 mm, inc. leads (LxW max); ComponentLink1Description: Manufacturer Link; ComponentLink1URL: http://www.semiconductors.philips.com/; ComponentLink2Description: Datasheet; ComponentLink2URL: http://www.semiconductors.philips.com/acrobat/datasheets/BFG541_CNV_3.pdf
footprint SOT223 (SOT-223/SC-73; 4 Leads; Body 6.7 x 7.3 mm, inc. leads (LxW max))
simulation model BFG541 (SUBCKT)
signal-integrity model BFG541
pins: 1 E, 2 B, 3 E, 4 C
text: 1,3

## BFG590
designator Q?
NPN 5 GHz Wideband Transistor; Published: 17-Sep-2003; DatasheetVersion: 2-Oct-1998; PackageVersion: Oct-2001; PackageReference: SOT143B; Publisher: Altium Limited; PackageDescription: SOT-143; 4 Leads; Body 3 x 2.5 mm, inc. leads (LxW max); ComponentLink1Description: Manufacturer Link; ComponentLink1URL: http://www.semiconductors.philips.com/; ComponentLink2Description: Datasheet; ComponentLink2URL: http://www.semiconductors.philips.com/acrobat/datasheets/BFG590_X_3.pdf
footprint SOT143B (SOT-143; 4 Leads; Body 3 x 2.5 mm, inc. leads (LxW max))
simulation model BFG590 (SUBCKT)
signal-integrity model BFG590
pins: 1 C, 2 B, 3 E, 4 E
text: 3,4

## BFG590/X
designator Q?
NPN 5 GHz Wideband Transistor; Published: 17-Sep-2003; DatasheetVersion: 2-Oct-1998; PackageVersion: Oct-2001; PackageReference: SOT143B; Publisher: Altium Limited; PackageDescription: SOT-143; 4 Leads; Body 3 x 2.5 mm, inc. leads (LxW max); ComponentLink1Description: Manufacturer Link; ComponentLink1URL: http://www.semiconductors.philips.com/; ComponentLink2Description: Datasheet; ComponentLink2URL: http://www.semiconductors.philips.com/acrobat/datasheets/BFG590_X_3.pdf
footprint SOT143B (SOT-143; 4 Leads; Body 3 x 2.5 mm, inc. leads (LxW max))
simulation model BFG590_X (SUBCKT)
signal-integrity model BFG590/X
pins: 1 C, 2 E, 3 B, 4 E
text: 2,4

## BFG590W
designator Q?
NPN 5 GHz Wideband Transistor; ComponentAvailability: Obsolete; Published: 17-Sep-2003; DatasheetVersion: 15-Oct-1998; PackageVersion: Sep-1998; PackageReference: SOT343N; Publisher: Altium Limited; PackageDescription: SOT-343; 4 Leads; Body 2.2 x 2.2 mm, inc. leads (LxW max); ComponentLink1Description: Manufacturer Link; ComponentLink1URL: http://www.semiconductors.philips.com/; ComponentLink2Description: Datasheet; ComponentLink2URL: http://www.semiconductors.philips.com/acrobat/datasheets/BFG590W_X_3.pdf; ComponentLink3Description: Discontinuation Notice; ComponentLink3URL: http://www.semiconductors.philips.com/pip/old/BFG590W_X_3.html
footprint SOT343N (SOT-343; 4 Leads; Body 2.2 x 2.2 mm, inc. leads (LxW max))
simulation model BFG590W (SUBCKT)
signal-integrity model BFG590W
pins: 1 C, 2 B, 3 E, 4 E
text: 3,4

## BFG590W/X
designator Q?
NPN 5 GHz Wideband Transistor; ComponentAvailability: Obsolete; Published: 17-Sep-2003; DatasheetVersion: 15-Oct-1998; PackageVersion: Sep-1998; PackageReference: SOT343N; Publisher: Altium Limited; PackageDescription: SOT-343; 4 Leads; Body 2.2 x 2.2 mm, inc. leads (LxW max); ComponentLink1Description: Manufacturer Link; ComponentLink1URL: http://www.semiconductors.philips.com/; ComponentLink2Description: Datasheet; ComponentLink2URL: http://www.semiconductors.philips.com/acrobat/datasheets/BFG590W_X_3.pdf; ComponentLink3Description: Discontinuation Notice; ComponentLink3URL: http://www.semiconductors.philips.com/pip/old/BFG590W_X_3.html
footprint SOT343N (SOT-343; 4 Leads; Body 2.2 x 2.2 mm, inc. leads (LxW max))
simulation model BFG590W_X (SUBCKT)
signal-integrity model BFG590W/X
pins: 1 C, 2 E, 3 B, 4 E
text: 2,4

## BFG591
designator Q?
NPN 7 GHz Wideband Transistor; Published: 17-Sep-2003; DatasheetVersion: 4-Sep-1995; PackageVersion: Aug-2001; PackageReference: SOT223; Publisher: Altium Limited; PackageDescription: SOT-223/SC-73; 4 Leads; Body 6.7 x 7.3 mm, inc. leads (LxW max); ComponentLink1Description: Manufacturer Link; ComponentLink1URL: http://www.semiconductors.philips.com/; ComponentLink2Description: Datasheet; ComponentLink2URL: http://www.semiconductors.philips.com/acrobat/datasheets/BFG591_2.pdf
footprint SOT223 (SOT-223/SC-73; 4 Leads; Body 6.7 x 7.3 mm, inc. leads (LxW max))
simulation model BFG591 (SUBCKT)
signal-integrity model BFG591
pins: 1 E, 2 B, 3 E, 4 C
text: 1,3

## BFM505
designator Q?
Dual NPN Wideband Transistor; Published: 17-Sep-2003; DatasheetVersion: 8-Oct-1996; PackageVersion: Feb-1997; PackageReference: SOT363; Publisher: Altium Limited; PackageDescription: SOT-363/SC-88; 6 Leads; Body 2.2 x 2.2 mm, inc. leads (LxW max); ComponentLink1Description: Manufacturer Link; ComponentLink1URL: http://www.semiconductors.philips.com/; ComponentLink2Description: Datasheet; ComponentLink2URL: http://www.semiconductors.philips.com/acrobat/datasheets/BFM505_2.pdf
footprint SOT363 (SOT-363/SC-88; 6 Leads; Body 2.2 x 2.2 mm, inc. leads (LxW max))
simulation model BFM505 (SUBCKT)
signal-integrity model BFM505
pins: 1 B1, 2 E1, 3 C2, 4 B2, 5 E2, 6 C1

## BFM520
designator Q?
Dual NPN Wideband Transistor; Published: 17-Sep-2003; DatasheetVersion: 8-Oct-1996; PackageVersion: Feb-1997; PackageReference: SOT363; Publisher: Altium Limited; PackageDescription: SOT-363/SC-88; 6 Leads; Body 2.2 x 2.2 mm, inc. leads (LxW max); ComponentLink1Description: Manufacturer Link; ComponentLink1URL: http://www.semiconductors.philips.com/; ComponentLink2Description: Datasheet; ComponentLink2URL: http://www.semiconductors.philips.com/acrobat/datasheets/BFM520_2.pdf
footprint SOT363 (SOT-363/SC-88; 6 Leads; Body 2.2 x 2.2 mm, inc. leads (LxW max))
simulation model BFM520 (SUBCKT)
signal-integrity model BFM520
pins: 1 B1, 2 E1, 3 C2, 4 B2, 5 E2, 6 C1

## BFQ17
designator Q?
NPN 1 GHz Wideband Transistor; ComponentAvailability: Obsolete; Published: 17-Sep-2003; LatestRevisionDate: 06-Jun-2005; LatestRevisionNote: PCB pad sequence reversed.; DatasheetVersion: Sep-1995; PackageVersion: Apr-1999; PackageReference: SOT89; Publisher: Altium Limited; PackageDescription: SOT-89; Body 4.6 x 4.25 mm, inc. leads (LxW max); Reverse Pinning; Code_JEITA: SC-62; Code_JEDEC: TO-243-AA; Code_IPC: SOT 89; ComponentLink1Description: Manufacturer Link; ComponentLink1URL: http://www.semiconductors.philips.com/; ComponentLink2Description: Datasheet; ComponentLink2URL: http://www.semiconductors.philips.com/acrobat/datasheets/BFQ17_CNV_2.pdf; ComponentLink3Description: Discontinuation Notice; ComponentLink3URL: http://www.semiconductors.philips.com/pip/old/BFQ17_CNV_2.html
footprint SOT89 (SOT-89; Body 4.6 x 4.25 mm, inc. leads (LxW max); Reverse Pinning)
simulation model BFQ17 (SUBCKT)
signal-integrity model BFQ17
pins: 1 E, 2 C, 3 B

## BFQ18A
designator Q?
NPN 4 GHz Wideband Transistor; Published: 17-Sep-2003; LatestRevisionDate: 06-Jun-2005; LatestRevisionNote: PCB pad sequence reversed.; DatasheetVersion: Sep-1995; PackageVersion: Apr-1999; PackageReference: SOT89; Publisher: Altium Limited; PackageDescription: SOT-89; Body 4.6 x 4.25 mm, inc. leads (LxW max); Reverse Pinning; Code_JEITA: SC-62; Code_JEDEC: TO-243-AA; Code_IPC: SOT 89; ComponentLink1Description: Manufacturer Link; ComponentLink1URL: http://www.semiconductors.philips.com/; ComponentLink2Description: Datasheet; ComponentLink2URL: http://www.semiconductors.philips.com/acrobat/datasheets/BFQ18A_CNV_2.pdf
footprint SOT89 (SOT-89; Body 4.6 x 4.25 mm, inc. leads (LxW max); Reverse Pinning)
simulation model BFQ18A (SUBCKT)
signal-integrity model BFQ18A
pins: 1 E, 2 C, 3 B

## BFQ19
designator Q?
NPN 5 GHz Wideband Transistor; Published: 17-Sep-2003; LatestRevisionDate: 06-Jun-2005; LatestRevisionNote: PCB pad sequence reversed.; DatasheetVersion: Sep-1995; PackageVersion: Apr-1999; PackageReference: SOT89; Publisher: Altium Limited; PackageDescription: SOT-89; Body 4.6 x 4.25 mm, inc. leads (LxW max); Reverse Pinning; Code_JEITA: SC-62; Code_JEDEC: TO-243-AA; Code_IPC: SOT 89; ComponentLink1Description: Manufacturer Link; ComponentLink1URL: http://www.semiconductors.philips.com/; ComponentLink2Description: Datasheet; ComponentLink2URL: http://www.semiconductors.philips.com/acrobat/datasheets/BFQ19_CNV_2.pdf
footprint SOT89 (SOT-89; Body 4.6 x 4.25 mm, inc. leads (LxW max); Reverse Pinning)
simulation model BFQ19 (SUBCKT)
signal-integrity model BFQ19
pins: 1 E, 2 C, 3 B

## BFQ67
designator Q?
NPN 8 GHz Wideband Transistor; Published: 17-Sep-2003; DatasheetVersion: 27-Aug-1998; PackageVersion: May-1999; PackageReference: SOT23; Publisher: Altium Limited; PackageDescription: SOT-23; 3 Leads; Body 3.0 x 2.5 mm, inc. leads (LxW max); ComponentLink1Description: Manufacturer Link; ComponentLink1URL: http://www.semiconductors.philips.com/; ComponentLink2Description: Datasheet; ComponentLink2URL: http://www.semiconductors.philips.com/acrobat/datasheets/BFQ67_4.pdf
footprint SOT23 (SOT-23; 3 Leads; Body 3.0 x 2.5 mm, inc. leads (LxW max))
simulation model BFQ67 (SUBCKT)
signal-integrity model BFQ67
pins: 1 B, 2 E, 3 C

## BFQ67W
designator Q?
NPN 8 GHz Wideband Transistor; Published: 17-Sep-2003; DatasheetVersion: Sep-1995; PackageVersion: Apr-1999; PackageReference: SOT323; Publisher: Altium Limited; PackageDescription: SOT-323/SC-70; 3 Leads; Body 2.2 x 2.2 mm, inc. leads (LxW max); ComponentLink1Description: Manufacturer Link; ComponentLink1URL: http://www.semiconductors.philips.com/; ComponentLink2Description: Datasheet; ComponentLink2URL: http://www.semiconductors.philips.com/acrobat/datasheets/BFQ67W_CNV_3.pdf
footprint SOT323 (SOT-323/SC-70; 3 Leads; Body 2.2 x 2.2 mm, inc. leads (LxW max))
simulation model BFQ67W (SUBCKT)
signal-integrity model BFQ67W
pins: 1 B, 2 E, 3 C

## BFQ149
designator Q?
PNP 5 GHz Wideband Transistor; Published: 17-Sep-2003; LatestRevisionDate: 06-Jun-2005; LatestRevisionNote: PCB pad sequence reversed.; DatasheetVersion: Sep-1995; PackageVersion: Apr-1999; PackageReference: SOT89; Publisher: Altium Limited; PackageDescription: SOT-89; Body 4.6 x 4.25 mm, inc. leads (LxW max); Reverse Pinning; Code_JEITA: SC-62; Code_JEDEC: TO-243-AA; Code_IPC: SOT 89; ComponentLink1Description: Manufacturer Link; ComponentLink1URL: http://www.semiconductors.philips.com/; ComponentLink2Description: Datasheet; ComponentLink2URL: http://www.semiconductors.philips.com/acrobat/datasheets/BFQ149_CNV_2.pdf
footprint SOT89 (SOT-89; Body 4.6 x 4.25 mm, inc. leads (LxW max); Reverse Pinning)
simulation model BFQ149 (SUBCKT)
signal-integrity model BFQ149
pins: 1 E, 2 C, 3 B

## BFR92A
designator Q?
NPN 5 GHz Wideband Transistor; Published: 17-Sep-2003; DatasheetVersion: 29-Oct-1997; PackageVersion: May-1999; PackageReference: SOT23; Publisher: Altium Limited; PackageDescription: SOT-23; 3 Leads; Body 3.0 x 2.5 mm, inc. leads (LxW max); ComponentLink1Description: Manufacturer Link; ComponentLink1URL: http://www.semiconductors.philips.com/; ComponentLink2Description: Datasheet; ComponentLink2URL: http://www.semiconductors.philips.com/acrobat/datasheets/BFR92A_2.pdf
footprint SOT23 (SOT-23; 3 Leads; Body 3.0 x 2.5 mm, inc. leads (LxW max))
simulation model BFR92A (SUBCKT)
signal-integrity model BFR92A
pins: 1 B, 2 E, 3 C

## BFR92AW
designator Q?
NPN 5 GHz Wideband Transistor; Published: 17-Sep-2003; DatasheetVersion: 18-Sep-1995; PackageVersion: Apr-1999; PackageReference: SOT323; Publisher: Altium Limited; PackageDescription: SOT-323/SC-70; 3 Leads; Body 2.2 x 2.2 mm, inc. leads (LxW max); ComponentLink1Description: Manufacturer Link; ComponentLink1URL: http://www.semiconductors.philips.com/; ComponentLink2Description: Datasheet; ComponentLink2URL: http://www.semiconductors.philips.com/acrobat/datasheets/BFR92AW_2.pdf
footprint SOT323 (SOT-323/SC-70; 3 Leads; Body 2.2 x 2.2 mm, inc. leads (LxW max))
simulation model BFR92AW (SUBCKT)
signal-integrity model BFR92AW
pins: 1 B, 2 E, 3 C

## BFR93A
designator Q?
NPN 6 GHz Wideband Transistor; Published: 17-Sep-2003; DatasheetVersion: 29-Oct-1997; PackageVersion: May-1999; PackageReference: SOT23; Publisher: Altium Limited; PackageDescription: SOT-23; 3 Leads; Body 3.0 x 2.5 mm, inc. leads (LxW max); ComponentLink1Description: Manufacturer Link; ComponentLink1URL: http://www.semiconductors.philips.com/; ComponentLink2Description: Datasheet; ComponentLink2URL: http://www.semiconductors.philips.com/acrobat/datasheets/BFR93A_2.pdf
footprint SOT23 (SOT-23; 3 Leads; Body 3.0 x 2.5 mm, inc. leads (LxW max))
simulation model BFR93A (SUBCKT)
signal-integrity model BFR93A
pins: 1 B, 2 E, 3 C

## BFR93AW
designator Q?
NPN 5 GHz Wideband Transistor; Published: 17-Sep-2003; DatasheetVersion: 18-Sep-1995; PackageVersion: Apr-1999; PackageReference: SOT323; Publisher: Altium Limited; PackageDescription: SOT-323/SC-70; 3 Leads; Body 2.2 x 2.2 mm, inc. leads (LxW max); ComponentLink1Description: Manufacturer Link; ComponentLink1URL: http://www.semiconductors.philips.com/; ComponentLink2Description: Datasheet; ComponentLink2URL: http://www.semiconductors.philips.com/acrobat/datasheets/BFR93AW_2.pdf
footprint SOT323 (SOT-323/SC-70; 3 Leads; Body 2.2 x 2.2 mm, inc. leads (LxW max))
simulation model BFR93AW (SUBCKT)
signal-integrity model BFR93AW
pins: 1 B, 2 E, 3 C

## BFR106
designator Q?
NPN 5 GHz Wideband Transistor; Published: 17-Sep-2003; DatasheetVersion: Sep-1995; PackageVersion: May-1999; PackageReference: SOT23; Publisher: Altium Limited; PackageDescription: SOT-23; 3 Leads; Body 3.0 x 2.5 mm, inc. leads (LxW max); ComponentLink1Description: Manufacturer Link; ComponentLink1URL: http://www.semiconductors.philips.com/; ComponentLink2Description: Datasheet; ComponentLink2URL: http://www.semiconductors.philips.com/acrobat/datasheets/BFR106_CNV_2.pdf
footprint SOT23 (SOT-23; 3 Leads; Body 3.0 x 2.5 mm, inc. leads (LxW max))
simulation model BFR106 (SUBCKT)
signal-integrity model BFR106
pins: 1 B, 2 E, 3 C